# Altium schematic symbol library U_DCDC_DOSA_SMT.Schlib: 1 symbol
Pins are listed as number, name and electrical type; pins without a type are passive.

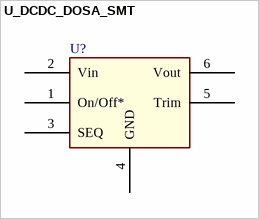
[diagram p0: symbol U_DCDC_DOSA_SMT]

## U_DCDC_DOSA_SMT
designator U?
pins: 1 On/Off*, 2 Vin, 3 SEQ, 4 GND, 5 Trim, 6 Vout